# Altium schematic symbol library MAX9939AUB&plus_T.SchLib: 2 symbols
Pins are listed as number, name and electrical type; pins without a type are passive.

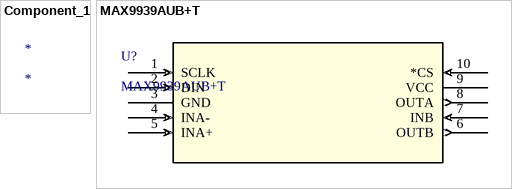
[diagram p0: symbols Component_1 to MAX9939AUB+T]

## Component_1
designator *

## MAX9939AUB+T
designator U?
No Description Available; Mfr_Name: Analog Devices Inc; Copyright: Copyright (C) 2023 Ultra Librarian. All rights reserved.; Manufacturer_Part_Number: MAX9939AUB+T; RefDes: RefDes; Type: DEV
footprint 21-0061L_MXM
pins: 1 SCLK (in), 2 DIN (in), 3 GND (power), 4 INA- (in), 5 INA+ (in), 6 OUTB (out), 7 INB (in), 8 OUTA (out), 9 VCC (power), 10 *CS (in)